# Altium footprint library high-freq.PcbLib: 1 footprints
Each footprint in its own frame and in the unit in brackets; x right, y up, seen from the top. Pads: shape width x height; smd on the part's side, far side on the other; paste and mask are expansions set on the pad; w line width, h text height; cw(c..) or ccw(c..) is an arc to the next point about the centre after c.
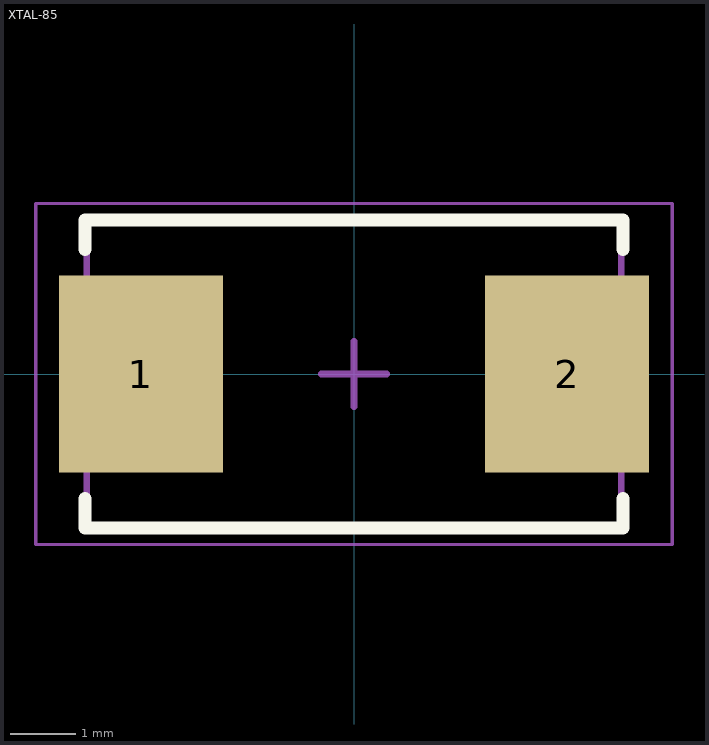
[diagram p0: the footprint, top view; thin cyan lines are the x and y axes]

## XTAL-85 [mm] "Molded Capacitor, 2-Leads, Body 8.00x4.49mm, IPC Medium Density"
height 1.4
pads (2):
  rect 2.5x3 smd: 1(-3.25,0) 2(3.25,0)
Top Overlay:
  lines w0.2: -4.1,-1.9 -4.1,-2.35 4.1,-2.35 4.1,-1.9 ; -4.1,1.9 -4.1,2.35 4.1,2.35 4.1,1.9
Mechanical 13:
  lines w0.1: -4.075,-2.32 4.075,-2.32 4.075,2.32 -4.075,2.32 -4.075,-2.32
Mechanical 15:
  lines w0.05: -4.85,-2.6 4.85,-2.6 4.85,2.6 -4.85,2.6 -4.85,-2.6
  lines w0.1: -0.5,0 0.5,0 ; 0,-0.5 0,0.5
3D body: height 1.4, standoff 0, extent -4.075,-2.32 4.075,2.32